# Altium schematic symbol library CPLD_Microchip.SchLib: 7 symbols
Pins are listed as number, name and electrical type; pins without a type are passive.

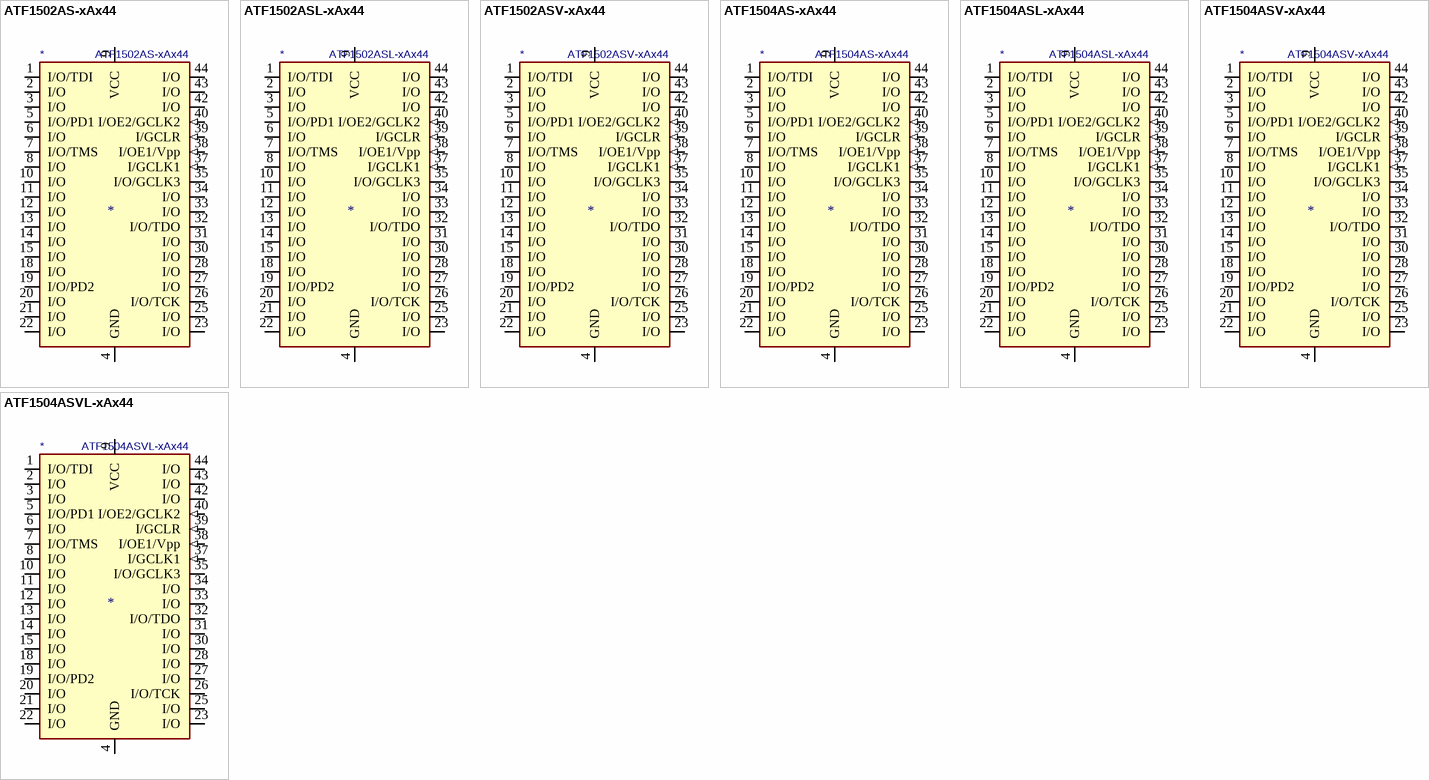
[diagram p0: symbols ATF1502AS-xAx44 to ATF1504ASVL-xAx44]

## ATF1502AS-xAx44
designator *  value ATF1502AS-xAx44
ki_keywords: CPLD; ki_description: Microchip CPLD, 32 Macrocell, 5 V, TQFP-44; ki_fp_filters: TQFP*10x10mm*P0.8mm*; Footprint: Package_QFP:TQFP-44_10x10mm_P0.8mm; Supplier: http://ww1.microchip.com/downloads/en/DeviceDoc/Atmel-0995-CPLD-ATF1502AS(L)-Datasheet.pdf
footprint TQFP-44_10x10mm_P0.8mm
pins: 1 I/O/TDI (io), 2 I/O (io), 3 I/O (io), 4 GND (power), 5 I/O/PD1 (io), 6 I/O (io), 7 I/O/TMS (io), 8 I/O (io), 9 VCC (power), 10 I/O (io), 11 I/O (io), 12 I/O (io), 13 I/O (io), 14 I/O (io), 15 I/O (io), 16 GND hidden, 17 VCC hidden, 18 I/O (io), 19 I/O/PD2 (io), 20 I/O (io), 21 I/O (io), 22 I/O (io), 23 I/O (io), 24 GND hidden, 25 I/O (io), 26 I/O/TCK (io), 27 I/O (io), 28 I/O (io), 29 VCC hidden, 30 I/O (io), 31 I/O (io), 32 I/O/TDO (io), 33 I/O (io), 34 I/O (io), 35 I/O/GCLK3 (io), 36 GND hidden, 37 I/GCLK1 (in), 38 I/OE1/Vpp (in), 39 I/GCLR (in), 40 I/OE2/GCLK2 (in), 41 VCC hidden, 42 I/O (io), 43 I/O (io), 44 I/O (io)

## ATF1502ASL-xAx44
designator *  value ATF1502ASL-xAx44
ki_keywords: CPLD; ki_description: Microchip CPLD, 32 Macrocell, 5 V, Low Power, TQFP-44; ki_fp_filters: TQFP*10x10mm*P0.8mm*; Footprint: Package_QFP:TQFP-44_10x10mm_P0.8mm; Supplier: http://ww1.microchip.com/downloads/en/DeviceDoc/Atmel-0995-CPLD-ATF1502AS(L)-Datasheet.pdf
footprint TQFP-44_10x10mm_P0.8mm
pins: 1 I/O/TDI (io), 2 I/O (io), 3 I/O (io), 4 GND (power), 5 I/O/PD1 (io), 6 I/O (io), 7 I/O/TMS (io), 8 I/O (io), 9 VCC (power), 10 I/O (io), 11 I/O (io), 12 I/O (io), 13 I/O (io), 14 I/O (io), 15 I/O (io), 16 GND hidden, 17 VCC hidden, 18 I/O (io), 19 I/O/PD2 (io), 20 I/O (io), 21 I/O (io), 22 I/O (io), 23 I/O (io), 24 GND hidden, 25 I/O (io), 26 I/O/TCK (io), 27 I/O (io), 28 I/O (io), 29 VCC hidden, 30 I/O (io), 31 I/O (io), 32 I/O/TDO (io), 33 I/O (io), 34 I/O (io), 35 I/O/GCLK3 (io), 36 GND hidden, 37 I/GCLK1 (in), 38 I/OE1/Vpp (in), 39 I/GCLR (in), 40 I/OE2/GCLK2 (in), 41 VCC hidden, 42 I/O (io), 43 I/O (io), 44 I/O (io)

## ATF1502ASV-xAx44
designator *  value ATF1502ASV-xAx44
ki_keywords: CPLD; ki_description: Microchip CPLD, 32 Macrocell, 3.3 V, TQFP-44; ki_fp_filters: TQFP*10x10mm*P0.8mm*; Footprint: Package_QFP:TQFP-44_10x10mm_P0.8mm; Supplier: http://ww1.microchip.com/downloads/en/DeviceDoc/doc1615.pdf
footprint TQFP-44_10x10mm_P0.8mm
pins: 1 I/O/TDI (io), 2 I/O (io), 3 I/O (io), 4 GND (power), 5 I/O/PD1 (io), 6 I/O (io), 7 I/O/TMS (io), 8 I/O (io), 9 VCC (power), 10 I/O (io), 11 I/O (io), 12 I/O (io), 13 I/O (io), 14 I/O (io), 15 I/O (io), 16 GND hidden, 17 VCC hidden, 18 I/O (io), 19 I/O/PD2 (io), 20 I/O (io), 21 I/O (io), 22 I/O (io), 23 I/O (io), 24 GND hidden, 25 I/O (io), 26 I/O/TCK (io), 27 I/O (io), 28 I/O (io), 29 VCC hidden, 30 I/O (io), 31 I/O (io), 32 I/O/TDO (io), 33 I/O (io), 34 I/O (io), 35 I/O/GCLK3 (io), 36 GND hidden, 37 I/GCLK1 (in), 38 I/OE1/Vpp (in), 39 I/GCLR (in), 40 I/OE2/GCLK2 (in), 41 VCC hidden, 42 I/O (io), 43 I/O (io), 44 I/O (io)

## ATF1504AS-xAx44
designator *  value ATF1504AS-xAx44
ki_keywords: CPLD; ki_description: Microchip CPLD, 64 Macrocell, 5 V, TQFP-44; ki_fp_filters: TQFP*10x10mm*P0.8mm*; Footprint: Package_QFP:TQFP-44_10x10mm_P0.8mm; Supplier: http://ww1.microchip.com/downloads/en/DeviceDoc/Atmel-0950-CPLD-ATF1504AS(L)-Datasheet.pdf
footprint TQFP-44_10x10mm_P0.8mm
pins: 1 I/O/TDI (io), 2 I/O (io), 3 I/O (io), 4 GND (power), 5 I/O/PD1 (io), 6 I/O (io), 7 I/O/TMS (io), 8 I/O (io), 9 VCC (power), 10 I/O (io), 11 I/O (io), 12 I/O (io), 13 I/O (io), 14 I/O (io), 15 I/O (io), 16 GND hidden, 17 VCC hidden, 18 I/O (io), 19 I/O/PD2 (io), 20 I/O (io), 21 I/O (io), 22 I/O (io), 23 I/O (io), 24 GND hidden, 25 I/O (io), 26 I/O/TCK (io), 27 I/O (io), 28 I/O (io), 29 VCC hidden, 30 I/O (io), 31 I/O (io), 32 I/O/TDO (io), 33 I/O (io), 34 I/O (io), 35 I/O/GCLK3 (io), 36 GND hidden, 37 I/GCLK1 (in), 38 I/OE1/Vpp (in), 39 I/GCLR (in), 40 I/OE2/GCLK2 (in), 41 VCC hidden, 42 I/O (io), 43 I/O (io), 44 I/O (io)

## ATF1504ASL-xAx44
designator *  value ATF1504ASL-xAx44
ki_keywords: CPLD; ki_description: Microchip CPLD, 64 Macrocell, 5 V, Low Power, TQFP-44; ki_fp_filters: TQFP*10x10mm*P0.8mm*; Footprint: Package_QFP:TQFP-44_10x10mm_P0.8mm; Supplier: http://ww1.microchip.com/downloads/en/DeviceDoc/Atmel-0950-CPLD-ATF1504AS(L)-Datasheet.pdf
footprint TQFP-44_10x10mm_P0.8mm
pins: 1 I/O/TDI (io), 2 I/O (io), 3 I/O (io), 4 GND (power), 5 I/O/PD1 (io), 6 I/O (io), 7 I/O/TMS (io), 8 I/O (io), 9 VCC (power), 10 I/O (io), 11 I/O (io), 12 I/O (io), 13 I/O (io), 14 I/O (io), 15 I/O (io), 16 GND hidden, 17 VCC hidden, 18 I/O (io), 19 I/O/PD2 (io), 20 I/O (io), 21 I/O (io), 22 I/O (io), 23 I/O (io), 24 GND hidden, 25 I/O (io), 26 I/O/TCK (io), 27 I/O (io), 28 I/O (io), 29 VCC hidden, 30 I/O (io), 31 I/O (io), 32 I/O/TDO (io), 33 I/O (io), 34 I/O (io), 35 I/O/GCLK3 (io), 36 GND hidden, 37 I/GCLK1 (in), 38 I/OE1/Vpp (in), 39 I/GCLR (in), 40 I/OE2/GCLK2 (in), 41 VCC hidden, 42 I/O (io), 43 I/O (io), 44 I/O (io)

## ATF1504ASV-xAx44
designator *  value ATF1504ASV-xAx44
ki_keywords: CPLD; ki_description: Microchip CPLD, 64 Macrocell, 3.3 V, TQFP-44; ki_fp_filters: TQFP*10x10mm*P0.8mm*; Footprint: Package_QFP:TQFP-44_10x10mm_P0.8mm; Supplier: http://ww1.microchip.com/downloads/en/DeviceDoc/ATF1504ASV-ATF1504ASVL-Data-Sheet-20006185A.pdf
footprint TQFP-44_10x10mm_P0.8mm
pins: 1 I/O/TDI (io), 2 I/O (io), 3 I/O (io), 4 GND (power), 5 I/O/PD1 (io), 6 I/O (io), 7 I/O/TMS (io), 8 I/O (io), 9 VCC (power), 10 I/O (io), 11 I/O (io), 12 I/O (io), 13 I/O (io), 14 I/O (io), 15 I/O (io), 16 GND hidden, 17 VCC hidden, 18 I/O (io), 19 I/O/PD2 (io), 20 I/O (io), 21 I/O (io), 22 I/O (io), 23 I/O (io), 24 GND hidden, 25 I/O (io), 26 I/O/TCK (io), 27 I/O (io), 28 I/O (io), 29 VCC hidden, 30 I/O (io), 31 I/O (io), 32 I/O/TDO (io), 33 I/O (io), 34 I/O (io), 35 I/O/GCLK3 (io), 36 GND hidden, 37 I/GCLK1 (in), 38 I/OE1/Vpp (in), 39 I/GCLR (in), 40 I/OE2/GCLK2 (in), 41 VCC hidden, 42 I/O (io), 43 I/O (io), 44 I/O (io)

## ATF1504ASVL-xAx44
designator *  value ATF1504ASVL-xAx44
ki_keywords: CPLD; ki_description: Microchip CPLD, 32 Macrocell, 3.3 V, Low Power, TQFP-44; ki_fp_filters: TQFP*10x10mm*P0.8mm*; Footprint: Package_QFP:TQFP-44_10x10mm_P0.8mm; Supplier: http://ww1.microchip.com/downloads/en/DeviceDoc/ATF1504ASV-ATF1504ASVL-Data-Sheet-20006185A.pdf
footprint TQFP-44_10x10mm_P0.8mm
pins: 1 I/O/TDI (io), 2 I/O (io), 3 I/O (io), 4 GND (power), 5 I/O/PD1 (io), 6 I/O (io), 7 I/O/TMS (io), 8 I/O (io), 9 VCC (power), 10 I/O (io), 11 I/O (io), 12 I/O (io), 13 I/O (io), 14 I/O (io), 15 I/O (io), 16 GND hidden, 17 VCC hidden, 18 I/O (io), 19 I/O/PD2 (io), 20 I/O (io), 21 I/O (io), 22 I/O (io), 23 I/O (io), 24 GND hidden, 25 I/O (io), 26 I/O/TCK (io), 27 I/O (io), 28 I/O (io), 29 VCC hidden, 30 I/O (io), 31 I/O (io), 32 I/O/TDO (io), 33 I/O (io), 34 I/O (io), 35 I/O/GCLK3 (io), 36 GND hidden, 37 I/GCLK1 (in), 38 I/OE1/Vpp (in), 39 I/GCLR (in), 40 I/OE2/GCLK2 (in), 41 VCC hidden, 42 I/O (io), 43 I/O (io), 44 I/O (io)